# EAGLE library part AVT-52663-TR1G (library Avago_By_element14_Batch_1)
InGaP HBT Gain Block
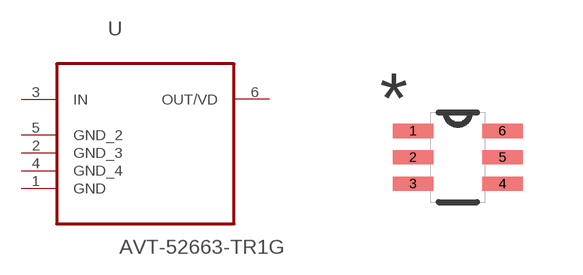
[diagram p13: symbol with the pads of SOT65P210X110-6N; footprint SOT65P210X110-6N]

Designator prefix U

## AVT-52663-TR1G (DESCRIPTION: InGaP HBT Gain Block; MPN: AVT-52663-TR1G; OC_FARNELL: 1865162; OC_NEWARK: 52R9673; PACKAGE: SOT-363-6; SUPPLIER: Avago Technologies)  [SOT65P210X110-6N]
1  GND  pas
2  GND_3  pas
3  IN  in
4  GND_4  pas
5  GND_2  pas
6  OUT/VD  out

## Footprint SOT65P210X110-6N (pad centres in mm)
smd 1.016 x 0.356: 1 -1.118,0.66; 2 -1.118,0; 3 -1.118,-0.66; 4 1.118,-0.66; 5 1.118,0; 6 1.118,0.66